# Altium footprint library 1825255-1.PcbLib: 1 footprints
Each footprint in its own frame and in the unit in brackets; x right, y up, seen from the top. Pads: shape width x height; smd on the part's side, far side on the other; paste and mask are expansions set on the pad; w line width, h text height; cw(c..) or ccw(c..) is an arc to the next point about the centre after c.
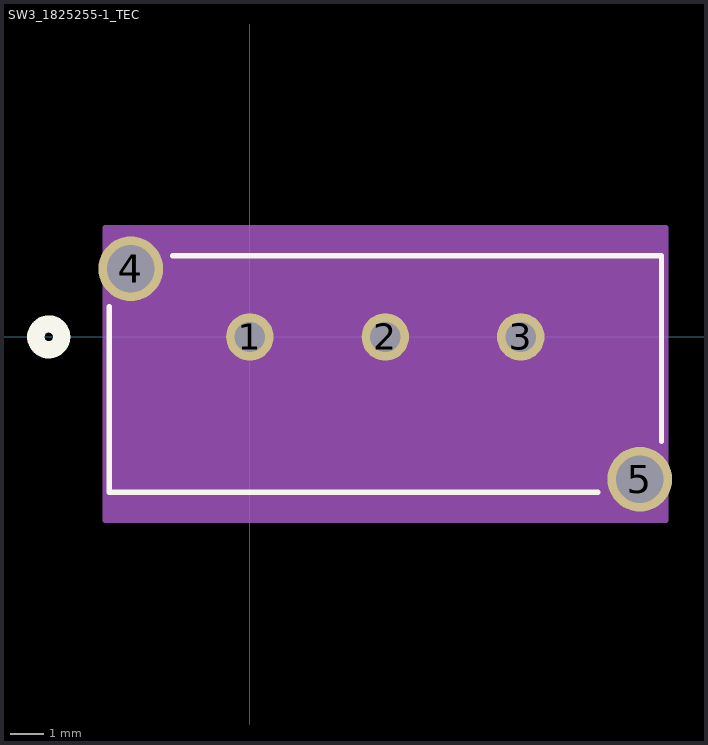
[diagram p0: the footprint, top view; thin cyan lines are the x and y axes]

## SW3_1825255-1_TEC [mil]
pads (5):
  round 55 hole 35 mask+0: 1(0,0) 2(157,0) 3(314,0)
  round 75 hole 55: 4(-138,79) 5(452,-165)
Top Overlay:
  circle w20: c-233,0 r15
  lines w6: -163,35.01 -163,-180 403.67,-180 ; -89.67,94 477,94 477,-121.01
Bottom Overlay:
  circle w20: c-233,0 r15
Mechanical 13:
  circle w20: c0,75 r15
  lines w1: -158,-175 -158,89 472,89 472,-175 -158,-175
Mechanical 15:
  region: 482,126.5 -168,126.5 -168,-212.5 482,-212.5
  lines w6: -168,-212.5 482,-212.5 482,126.5 -168,126.5 -168,-212.5
3D body "c-1825255-1-b-3d.stp": height 477.17, standoff -133.07, extent -159.96,-176.89 469.96,86.89
3D body: height 10, standoff 0, extent 0,0 10,10